# Altium footprint library 8115.400-1.PcbLib: 1 footprints
Each footprint in its own frame and in the unit in brackets; x right, y up, seen from the top. Pads: shape width x height; smd on the part's side, far side on the other; paste and mask are expansions set on the pad; w line width, h text height; cw(c..) or ccw(c..) is an arc to the next point about the centre after c.
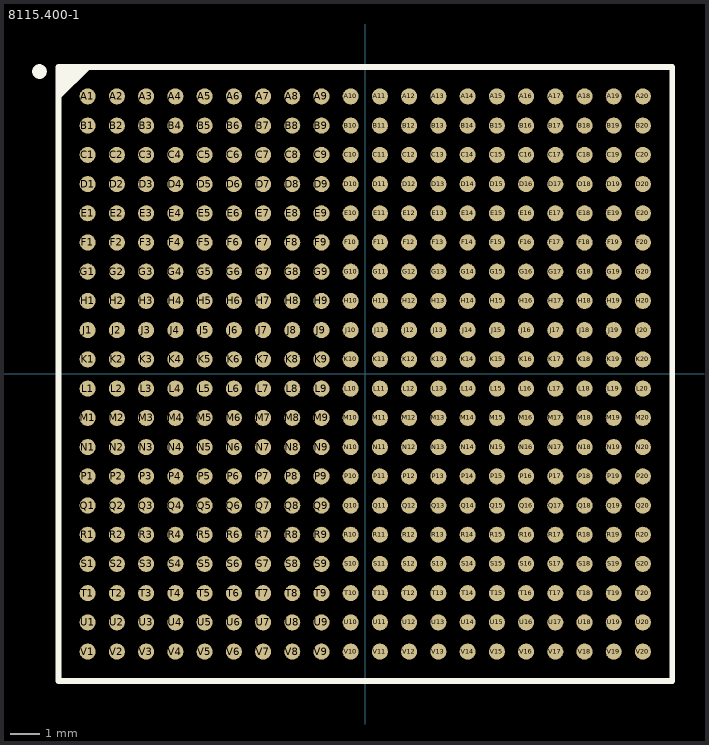
[diagram p0: the footprint, top view; thin cyan lines are the x and y axes]

## 8115.400-1 [mm]
height 3.25
pads (400):
  round 0.55 smd: A1(-9.5,9.5) A2(-8.5,9.5) A3(-7.5,9.5) A4(-6.5,9.5) A5(-5.5,9.5) A6(-4.5,9.5) A7(-3.5,9.5) A8(-2.5,9.5) A9(-1.5,9.5) A10(-0.5,9.5) A11(0.5,9.5) A12(1.5,9.5) A13(2.5,9.5) A14(3.5,9.5) A15(4.5,9.5) A16(5.5,9.5) A17(6.5,9.5) A18(7.5,9.5) A19(8.5,9.5) A20(9.5,9.5) B1(-9.5,8.5) B2(-8.5,8.5) B3(-7.5,8.5) B4(-6.5,8.5) B5(-5.5,8.5) B6(-4.5,8.5) B7(-3.5,8.5) B8(-2.5,8.5) B9(-1.5,8.5) B10(-0.5,8.5) B11(0.5,8.5) B12(1.5,8.5) B13(2.5,8.5) B14(3.5,8.5) B15(4.5,8.5) B16(5.5,8.5) B17(6.5,8.5) B18(7.5,8.5) B19(8.5,8.5) B20(9.5,8.5) C1(-9.5,7.5) C2(-8.5,7.5) C3(-7.5,7.5) C4(-6.5,7.5) C5(-5.5,7.5) C6(-4.5,7.5) C7(-3.5,7.5) C8(-2.5,7.5) C9(-1.5,7.5) C10(-0.5,7.5) C11(0.5,7.5) C12(1.5,7.5) C13(2.5,7.5) C14(3.5,7.5) C15(4.5,7.5) C16(5.5,7.5) C17(6.5,7.5) C18(7.5,7.5) C19(8.5,7.5) C20(9.5,7.5) D1(-9.5,6.5) D2(-8.5,6.5) D3(-7.5,6.5) D4(-6.5,6.5) D5(-5.5,6.5) D6(-4.5,6.5) D7(-3.5,6.5) D8(-2.5,6.5) D9(-1.5,6.5) D10(-0.5,6.5) D11(0.5,6.5) D12(1.5,6.5) D13(2.5,6.5) D14(3.5,6.5) D15(4.5,6.5) D16(5.5,6.5) D17(6.5,6.5) D18(7.5,6.5) D19(8.5,6.5) D20(9.5,6.5) E1(-9.5,5.5) E2(-8.5,5.5) E3(-7.5,5.5) E4(-6.5,5.5) E5(-5.5,5.5) E6(-4.5,5.5) E7(-3.5,5.5) E8(-2.5,5.5) E9(-1.5,5.5) E10(-0.5,5.5) E11(0.5,5.5) E12(1.5,5.5) E13(2.5,5.5) E14(3.5,5.5) E15(4.5,5.5) E16(5.5,5.5) E17(6.5,5.5) E18(7.5,5.5) E19(8.5,5.5) E20(9.5,5.5) F1(-9.5,4.5) F2(-8.5,4.5) F3(-7.5,4.5) F4(-6.5,4.5) F5(-5.5,4.5) F6(-4.5,4.5) F7(-3.5,4.5) F8(-2.5,4.5) F9(-1.5,4.5) F10(-0.5,4.5) F11(0.5,4.5) F12(1.5,4.5) F13(2.5,4.5) F14(3.5,4.5) F15(4.5,4.5) F16(5.5,4.5) F17(6.5,4.5) F18(7.5,4.5) F19(8.5,4.5) F20(9.5,4.5) G1(-9.5,3.5) G2(-8.5,3.5) G3(-7.5,3.5) G4(-6.5,3.5) G5(-5.5,3.5) G6(-4.5,3.5) G7(-3.5,3.5) G8(-2.5,3.5) G9(-1.5,3.5) G10(-0.5,3.5) G11(0.5,3.5) G12(1.5,3.5) G13(2.5,3.5) G14(3.5,3.5) G15(4.5,3.5) G16(5.5,3.5) G17(6.5,3.5) G18(7.5,3.5) G19(8.5,3.5) G20(9.5,3.5) H1(-9.5,2.5) H2(-8.5,2.5) H3(-7.5,2.5) H4(-6.5,2.5) H5(-5.5,2.5) H6(-4.5,2.5) H7(-3.5,2.5) H8(-2.5,2.5) H9(-1.5,2.5) H10(-0.5,2.5) H11(0.5,2.5) H12(1.5,2.5) H13(2.5,2.5) H14(3.5,2.5) H15(4.5,2.5) H16(5.5,2.5) H17(6.5,2.5) H18(7.5,2.5) H19(8.5,2.5) H20(9.5,2.5) J1(-9.5,1.5) J2(-8.5,1.5) J3(-7.5,1.5) J4(-6.5,1.5) J5(-5.5,1.5) J6(-4.5,1.5) J7(-3.5,1.5) J8(-2.5,1.5) J9(-1.5,1.5) J10(-0.5,1.5) J11(0.5,1.5) J12(1.5,1.5) J13(2.5,1.5) J14(3.5,1.5) J15(4.5,1.5) J16(5.5,1.5) J17(6.5,1.5) J18(7.5,1.5) J19(8.5,1.5) J20(9.5,1.5) K1(-9.5,0.5) K2(-8.5,0.5) K3(-7.5,0.5) K4(-6.5,0.5) K5(-5.5,0.5) K6(-4.5,0.5) K7(-3.5,0.5) K8(-2.5,0.5) K9(-1.5,0.5) K10(-0.5,0.5) K11(0.5,0.5) K12(1.5,0.5) K13(2.5,0.5) K14(3.5,0.5) K15(4.5,0.5) K16(5.5,0.5) K17(6.5,0.5) K18(7.5,0.5) K19(8.5,0.5) K20(9.5,0.5) L1(-9.5,-0.5) L2(-8.5,-0.5) L3(-7.5,-0.5) L4(-6.5,-0.5) L5(-5.5,-0.5) L6(-4.5,-0.5) L7(-3.5,-0.5) L8(-2.5,-0.5) L9(-1.5,-0.5) L10(-0.5,-0.5) L11(0.5,-0.5) L12(1.5,-0.5) L13(2.5,-0.5) L14(3.5,-0.5) L15(4.5,-0.5) L16(5.5,-0.5) L17(6.5,-0.5) L18(7.5,-0.5) L19(8.5,-0.5) L20(9.5,-0.5) M1(-9.5,-1.5) M2(-8.5,-1.5) M3(-7.5,-1.5) M4(-6.5,-1.5) M5(-5.5,-1.5) M6(-4.5,-1.5) M7(-3.5,-1.5) M8(-2.5,-1.5) M9(-1.5,-1.5) M10(-0.5,-1.5) M11(0.5,-1.5) M12(1.5,-1.5) M13(2.5,-1.5) M14(3.5,-1.5) M15(4.5,-1.5) M16(5.5,-1.5) M17(6.5,-1.5) M18(7.5,-1.5) M19(8.5,-1.5) M20(9.5,-1.5) N1(-9.5,-2.5) N2(-8.5,-2.5) N3(-7.5,-2.5) N4(-6.5,-2.5) N5(-5.5,-2.5) N6(-4.5,-2.5) N7(-3.5,-2.5) N8(-2.5,-2.5) N9(-1.5,-2.5) N10(-0.5,-2.5) N11(0.5,-2.5) N12(1.5,-2.5) N13(2.5,-2.5) N14(3.5,-2.5) N15(4.5,-2.5) N16(5.5,-2.5) N17(6.5,-2.5) N18(7.5,-2.5) N19(8.5,-2.5) N20(9.5,-2.5) P1(-9.5,-3.5) P2(-8.5,-3.5) P3(-7.5,-3.5) P4(-6.5,-3.5) P5(-5.5,-3.5) P6(-4.5,-3.5) P7(-3.5,-3.5) P8(-2.5,-3.5) P9(-1.5,-3.5) P10(-0.5,-3.5) P11(0.5,-3.5) P12(1.5,-3.5) P13(2.5,-3.5) P14(3.5,-3.5) P15(4.5,-3.5) P16(5.5,-3.5) P17(6.5,-3.5) P18(7.5,-3.5) P19(8.5,-3.5) P20(9.5,-3.5) Q1(-9.5,-4.5) Q2(-8.5,-4.5) Q3(-7.5,-4.5) Q4(-6.5,-4.5) Q5(-5.5,-4.5) Q6(-4.5,-4.5) Q7(-3.5,-4.5) Q8(-2.5,-4.5) Q9(-1.5,-4.5) Q10(-0.5,-4.5) Q11(0.5,-4.5) Q12(1.5,-4.5) Q13(2.5,-4.5) Q14(3.5,-4.5) Q15(4.5,-4.5) Q16(5.5,-4.5) Q17(6.5,-4.5) Q18(7.5,-4.5) Q19(8.5,-4.5) Q20(9.5,-4.5) R1(-9.5,-5.5) R2(-8.5,-5.5) R3(-7.5,-5.5) R4(-6.5,-5.5) R5(-5.5,-5.5) R6(-4.5,-5.5) R7(-3.5,-5.5) R8(-2.5,-5.5) R9(-1.5,-5.5) R10(-0.5,-5.5) R11(0.5,-5.5) R12(1.5,-5.5) R13(2.5,-5.5) R14(3.5,-5.5) R15(4.5,-5.5) R16(5.5,-5.5) R17(6.5,-5.5) R18(7.5,-5.5) R19(8.5,-5.5) R20(9.5,-5.5) S1(-9.5,-6.5) S2(-8.5,-6.5) S3(-7.5,-6.5) S4(-6.5,-6.5) S5(-5.5,-6.5) S6(-4.5,-6.5) S7(-3.5,-6.5) S8(-2.5,-6.5) S9(-1.5,-6.5) S10(-0.5,-6.5) S11(0.5,-6.5) S12(1.5,-6.5) S13(2.5,-6.5) S14(3.5,-6.5) S15(4.5,-6.5) S16(5.5,-6.5) S17(6.5,-6.5) S18(7.5,-6.5) S19(8.5,-6.5) S20(9.5,-6.5) T1(-9.5,-7.5) T2(-8.5,-7.5) T3(-7.5,-7.5) T4(-6.5,-7.5) T5(-5.5,-7.5) T6(-4.5,-7.5) T7(-3.5,-7.5) T8(-2.5,-7.5) T9(-1.5,-7.5) T10(-0.5,-7.5) T11(0.5,-7.5) T12(1.5,-7.5) T13(2.5,-7.5) T14(3.5,-7.5) T15(4.5,-7.5) T16(5.5,-7.5) T17(6.5,-7.5) T18(7.5,-7.5) T19(8.5,-7.5) T20(9.5,-7.5) U1(-9.5,-8.5) U2(-8.5,-8.5) U3(-7.5,-8.5) U4(-6.5,-8.5) U5(-5.5,-8.5) U6(-4.5,-8.5) U7(-3.5,-8.5) U8(-2.5,-8.5) U9(-1.5,-8.5) U10(-0.5,-8.5) U11(0.5,-8.5) U12(1.5,-8.5) U13(2.5,-8.5) U14(3.5,-8.5) U15(4.5,-8.5) U16(5.5,-8.5) U17(6.5,-8.5) U18(7.5,-8.5) U19(8.5,-8.5) U20(9.5,-8.5) V1(-9.5,-9.5) V2(-8.5,-9.5) V3(-7.5,-9.5) V4(-6.5,-9.5) V5(-5.5,-9.5) V6(-4.5,-9.5) V7(-3.5,-9.5) V8(-2.5,-9.5) V9(-1.5,-9.5) V10(-0.5,-9.5) V11(0.5,-9.5) V12(1.5,-9.5) V13(2.5,-9.5) V14(3.5,-9.5) V15(4.5,-9.5) V16(5.5,-9.5) V17(6.5,-9.5) V18(7.5,-9.5) V19(8.5,-9.5) V20(9.5,-9.5)
Top Overlay:
  circle w0.25: c-11.15,10.35 r0.125
  region: -9.5,10.5 -10.5,9.5 -10.5,10.5
  lines w0.2: -10.5,9.5 -9.5,10.5 ; -10.5,-10.5 -10.5,10.5 10.5,10.5 10.5,-10.5 -10.5,-10.5
3D body "8316.400-3.stp": height 3.15, standoff 0, extent -10.5,-10.5 10.5,10.5